# Altium integrated library MAX2659ELT_T.IntLib: 1 symbol
Pins are listed as number, name and electrical type; pins without a type are passive.

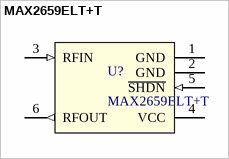
[diagram p0: symbol MAX2659ELT+T]

## MAX2659ELT+T
designator U?
RF ì¦í­ê¸° IC GPS / GNSS 1575.42MHz 6-uDFN (1.5x1.0); Manufacturer 1: Maxim; MF: Maxim Integrated; Max Frequency: 1.75GHz; Max Power Dissipation: 167mW; Operating Supply Voltage: 2.85V; P1dB: -12dBm; Gain: 20.5dB; Noise Figure: 0.8dB; Operating Supply Current: 4.1mA; Test Frequency: 1.57542GHz; Number of Channels: 1; Max Supply Voltage: 3.6V; Min Supply Voltage: 1.6V; Price: None; SnapEDA_Link: https://www.snapeda.com/parts/MAX2659ELT+T/Maxim%20Integrated/view-part/182518/?ref=snap; Availability: Unavailable; Value: MAX2659ELT+T; MP: MAX2659ELT+T; Package: &amp;MICRO;DFN-6 Maxim; Supplier 1: Digi-Key; Manufacturer Part Number 1: MAX2659ELT+T; Stock 1: 1072; Pricing 1: 1=1,80000, 10=1,62400, 25=1,45000, 100=1,30500, 250=1,16000, 500=1,01500, 1000=0,84100 (USD); RoHS: Yes; Mount: Surface Mount; Case/Package: WFDFN; Number of Pins: 6; Min Operating Temperature: -40°C; Max Operating Temperature: 85°C; Packaging: Tape and Reel; Package Quantity: 2500; Frequency: 1.57542GHz; Length: 1.55mm; Height: 0.75mm; Width: 1.05mm; Lead Free: Lead Free; ComponentLink1URL: https://datasheet.ciiva.com/16460/max2659-16460138.pdf?src-supplier=Avnet+Asia; ComponentLink1Description: https://datasheet.ciiva.com/16460/max2659-16460138.pdf?src-supplier=Avnet+Asia; ComponentLink2URL: https://datasheet.ciiva.com/26924/max2659elt-t-26924805.pdf?src-supplier=IIIC; ComponentLink2Description: https://datasheet.ciiva.com/26924/max2659elt-t-26924805.pdf?src-supplier=IIIC; ComponentLink3URL: https://datasheet.ciiva.com/2790/max2659-2790455.pdf?src-supplier=Digi-Key; ComponentLink3Description: https://datasheet.ciiva.com/2790/max2659-2790455.pdf?src-supplier=Digi-Key; ComponentLink4URL: https://datasheet.ciiva.com/2790/max2659-2790456.pdf?src-supplier=Digi-Key; ComponentLink4Description: https://datasheet.ciiva.com/2790/max2659-2790456.pdf?src-supplier=Digi-Key; ComponentLink5URL: https://datasheet.ciiva.com/2790/max2659-2790457.pdf?src-supplier=Digi-Key; ComponentLink5Description: https://datasheet.ciiva.com/2790/max2659-2790457.pdf?src-supplier=Digi-Key; ComponentLink6URL: https://datasheet.ciiva.com/3301/max2659-3301469.pdf?src-supplier=Avnet; ComponentLink6Description: https://datasheet.ciiva.com/3301/max2659-3301469.pdf?src-supplier=Avnet; ComponentLink7URL: https://datasheet.ciiva.com/4915/max2659-74449-4915373.pdf?src-supplier=Mouser; ComponentLink7Description: https://datasheet.ciiva.com/4915/max2659-74449-4915373.pdf?src-supplier=Mouser; Supplier Part Number 1: MAX2659ELT+TCT-ND
footprint DFN150X100X80-6N
pins: 1 GND, 2 GND, 3 RFIN (in), 4 VCC, 5 ~{SHDN} (in), 6 RFOUT (out)